# EAGLE library part SI7021-* (library bespin)
I2C Humidity and Temperature Sensor Source: http://www.silabs.com/Support%20Documents/TechnicalDocs/Si7021.pdf
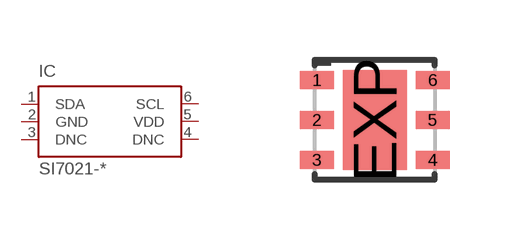
[diagram p3: symbol with the pads of DFN6-3X3; footprint DFN6-3X3]

Designator prefix IC

## SI7021-A10-GM (MF: Silicon Labs; MPN: Si7021-A10-GM; OC_FARNELL: 2422571; OC_NEWARK: 55X3111), SI7021-A10-GM1 (MF: Silicon Labs; MPN: Si7021-A10-GM1; OC_FARNELL: 2422570; OC_NEWARK: 55X3112), SI7021-A10-IM (MF: Silicon Labs; MPN: Si7021-A10-IM; OC_FARNELL: 2422573; OC_NEWARK: 55X3113), SI7021-A10-IM1 (MF: Silicon Labs; MPN: Si7021-A10-IM1; OC_FARNELL: 2422572; OC_NEWARK: 55X3114)  [DFN6-3X3]
1  SDA
2  GND  pwr
3  DNC  nc
4  DNC  nc
5  VDD  pwr
6  SCL  in

## Footprint DFN6-3X3 (pad centres in mm)
6-Lead Plastic Dual Flat No Lead Package - 3x3 mm Body [DFN] Source: http://www.silabs.com/Support%20Documents/TechnicalDocs/Si7006-A10.pdf
smd 0.85 x 0.45: 1 -1.45,1; 2 -1.45,0; 3 -1.45,-1; 4 1.45,-1; 5 1.45,0; 6 1.45,1
smd 1.6 x 2.5: EXP 0,0